# Altium schematic symbol library 摇杆.SchLib: 2 symbols
Pins are listed as number, name and electrical type; pins without a type are passive.

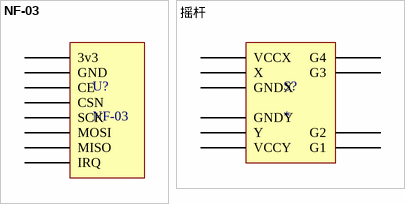
[diagram p0: symbols NF-03 to 摇杆]

## NF-03
designator U?
footprint NF-03
pins: 1 3v3, 2 GND, 3 CE, 4 CSN, 5 SCK, 6 MOSI, 7 MISO, 8 IRQ

## 摇杆
designator S?
footprint 3D161摇杆
pins: 1 VCCX, 2 X, 3 GNDX, 4 GNDY, 5 Y, 6 VCCY, 7 G1, 8 G2, 9 G3, 10 G4